# Altium footprint library Demo_Board_library_PCB.PcbLib: 42 footprints (part 2 of 3)
Each footprint in its own frame and in the unit in brackets; x right, y up, seen from the top. Pads: shape width x height; smd on the part's side, far side on the other; paste and mask are expansions set on the pad; w line width, h text height; cw(c..) or ccw(c..) is an arc to the next point about the centre after c.
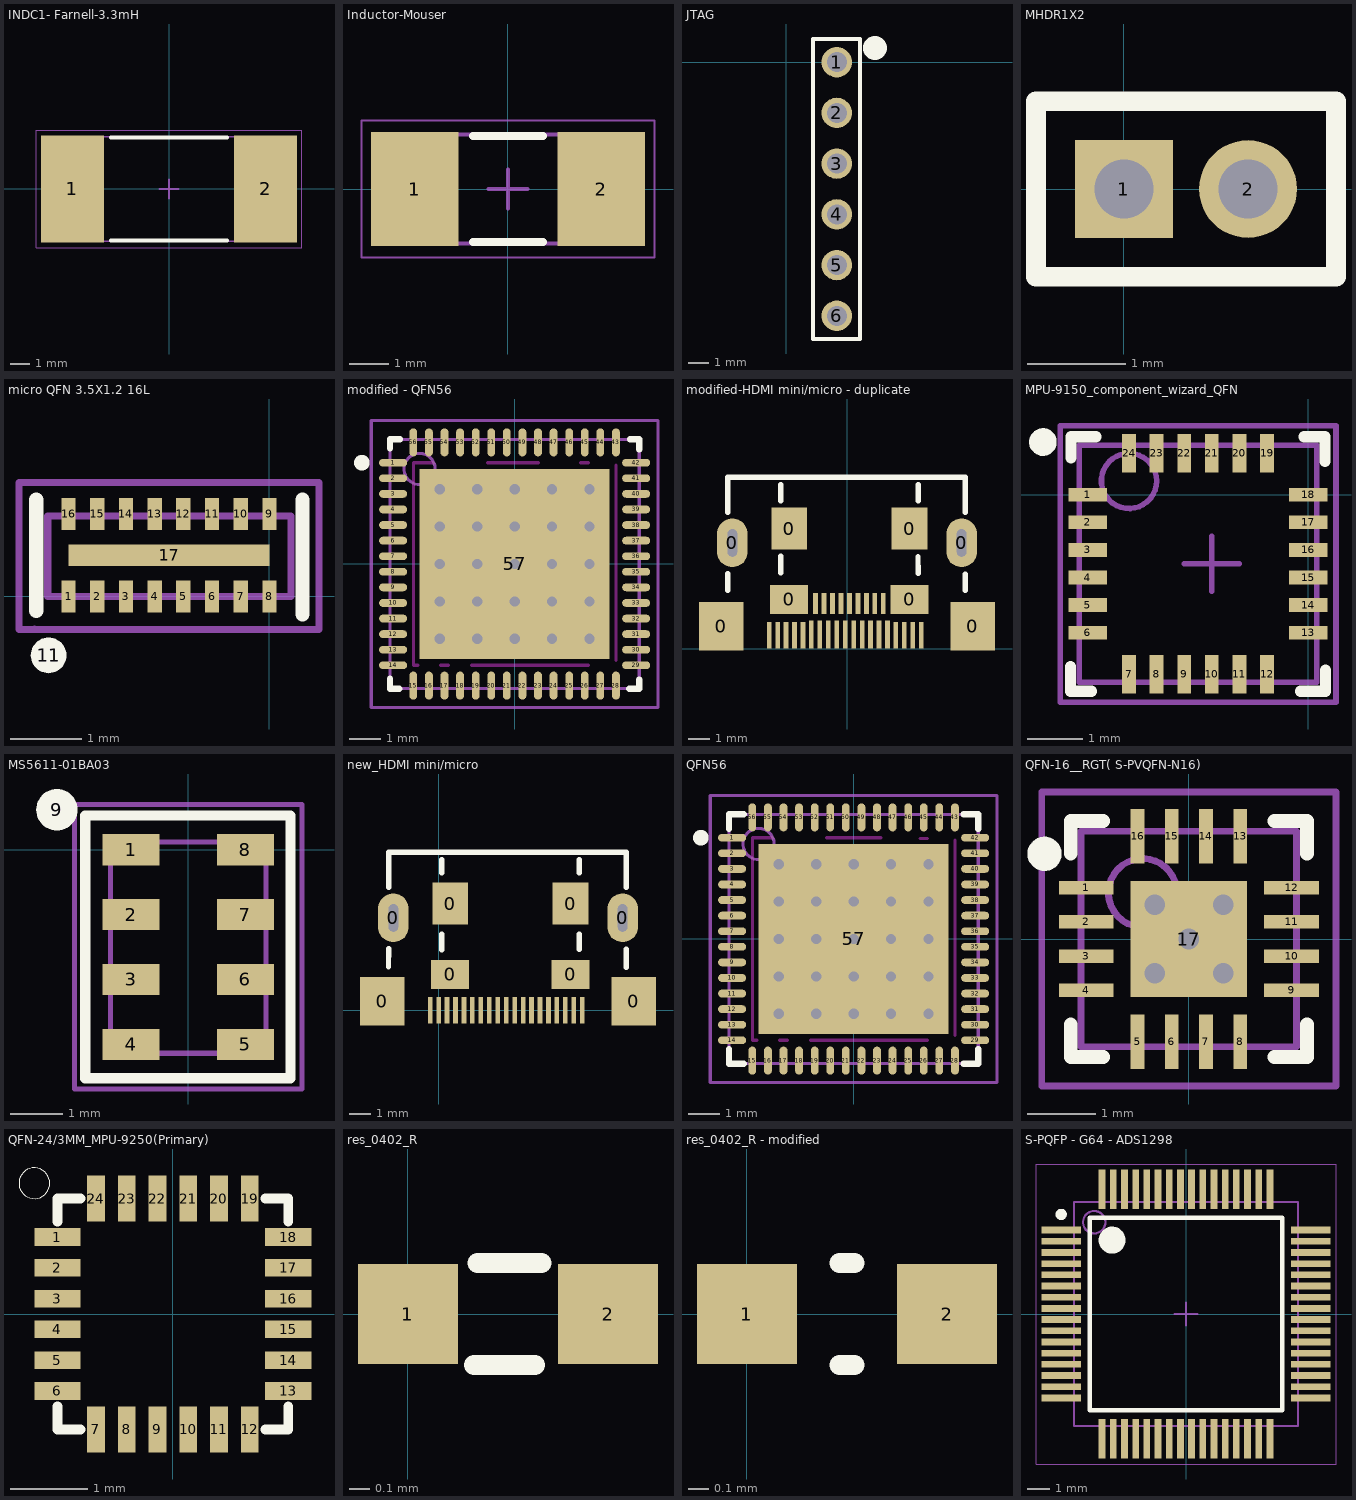
[diagram p1: the footprints below, top view; thin cyan lines are the x and y axes]

## INDC1- Farnell-3.3mH [mm] "Chip Inductor, 2-Leads, Body 12,50x5,50mm, IPC Medium Density"
height 0.6
pads (2):
  rect 3.32x5.62 smd: 1(-5.09,0) 2(5.09,0)
Top Overlay:
  lines w0.2: -3.05,-2.71 3.05,-2.71 ; -3.05,2.71 3.05,2.71
Mechanical 13:
  lines w0.1: -6.25,-2.75 6.25,-2.75 6.25,2.75 -6.25,2.75 -6.25,-2.75
Mechanical 15:
  lines w0.05: -7,-3.1 7,-3.1 7,3.1 -7,3.1 -7,-3.1
  lines w0.1: -0.5,0 0.5,0 ; 0,-0.5 0,0.5
3D body: height 0.6, standoff 0, extent 3.25,-2.75 6.25,2.75
3D body: height 0.6, standoff 0, extent -6.25,-2.75 -3.25,2.75
3D body: height 0.6, standoff 0, extent -3.25,-2.75 3.25,2.75

## Inductor-Mouser [mm]
height 0.6
pads (2):
  rect 2.24x2.91 smd: 1(-2.385,0) 2(2.385,0)
Top Overlay:
  lines w0.2: -0.9,-1.355 0.9,-1.355 ; -0.9,1.355 0.9,1.355
Mechanical 13:
  lines w0.1: -2.995,-1.395 -2.995,1.395 2.995,1.395 2.995,-1.395 -2.995,-1.395
Mechanical 15:
  lines w0.05: -3.75,-1.75 -3.75,1.75 3.75,1.75 3.75,-1.75 -3.75,-1.75
  lines w0.1: -0.5,0 0.5,0 ; 0,-0.5 0,0.5
3D body: height 0.6, standoff 0, extent -1.085,-1.395 1.085,1.395
3D body: height 0.6, standoff 0, extent -2.995,-1.395 -1.085,1.395
3D body: height 0.6, standoff 0, extent 1.085,-1.395 2.995,1.395

## JTAG [mil]
pads (6):
  round 60 hole 39.37: 1(100,0) 2(100,-100) 3(100,-200) 4(100,-300) 5(100,-400) 6(100,-500)
Top Overlay:
  circle w23.62: c175.2,27.95 r11.81
  lines w7.87: 53.15,-545.67 53.15,45.67 146.06,45.67 146.06,-545.67 53.15,-545.67

## MHDR1X2 [mm] "Connector; Header; 2 Position"
pads (2):
  rect 1x1 hole 0.6: 1(0,0)
  round 1 hole 0.6: 2(1.27,0)
Top Overlay:
  lines w0.2: -0.9,-0.9 -0.9,0.9 2.17,0.9 2.17,-0.9 -0.9,-0.9

## micro QFN 3.5X1.2 16L [mm] "footprint EMIF06-MSD02N16"
height 0.45
pads (18):
  rect 0.2x0.45 smd mask+0.05: 1(-2.8,0) 2(-2.4,0) 3(-2,0) 4(-1.6,0) 5(-1.2,0) 6(-0.8,0) 7(-0.4,0) 8(0,0) 9(0,1.15) 10(-0.4,1.15) 11(-0.8,1.15) 12(-1.2,1.15) 13(-1.6,1.15) 14(-2,1.15) 15(-2.4,1.15) 16(-2.8,1.15)
  round 0.5 on Top Overlay mask+0.08: 11(-3.077,-0.82)
  rect 2.8x0.3 smd mask+0.05: 17(-1.4,0.575)
Top Overlay:
  lines w0.2: -3.25,-0.2 -3.25,1.35 ; 0.46,-0.25 0.46,1.35
Mechanical 13:
  lines w0.1: -3.09,0 -3.09,1.12 0.3,1.12 0.3,0 0,0 -3.09,0
Mechanical 15:
  lines w0.1: -3.275,-0.455 -3.275,-0.46 ; -3.275,-0.46 -3.49,-0.46 -3.49,1.59 -3.47,1.59 0.69,1.59 0.69,-0.46 -3.275,-0.46
3D body: height 0.5, standoff 0.45, extent -3.115,-0.025 0.325,1.145

## modified - QFN56 [mm] "QFN, 56-Leads, Body 8.0x8.0mm (max), Pitch 0.50mm, IPC Medium Density"
height 0.8
pads (57):
  oval 0.9x0.25 smd mask+0.049: 1(-3.9,3.25) 14(-3.9,-3.25) 29(3.9,-3.25) 42(3.9,3.25)
  oval 0.9x0.25 smd: 2(-3.9,2.75) 3(-3.9,2.25) 4(-3.9,1.75) 5(-3.9,1.25) 6(-3.9,0.75) 7(-3.9,0.25) 8(-3.9,-0.25) 9(-3.9,-0.75) 10(-3.9,-1.25) 11(-3.9,-1.75) 12(-3.9,-2.25) 13(-3.9,-2.75) 30(3.9,-2.75) 31(3.9,-2.25) 32(3.9,-1.75) 33(3.9,-1.25) 34(3.9,-0.75) 35(3.9,-0.25) 36(3.9,0.25) 37(3.9,0.75) 38(3.9,1.25) 39(3.9,1.75) 40(3.9,2.25) 41(3.9,2.75)
  oval 0.25x0.9 smd mask+0.049: 15(-3.25,-3.9) 28(3.25,-3.9) 43(3.25,3.9) 56(-3.25,3.9)
  oval 0.25x0.9 smd: 16(-2.75,-3.9) 17(-2.25,-3.9) 18(-1.75,-3.9) 19(-1.25,-3.9) 20(-0.75,-3.9) 21(-0.25,-3.9) 22(0.25,-3.9) 23(0.75,-3.9) 24(1.25,-3.9) 25(1.75,-3.9) 26(2.25,-3.9) 27(2.75,-3.9) 44(2.75,3.9) 45(2.25,3.9) 46(1.75,3.9) 47(1.25,3.9) 48(0.75,3.9) 49(0.25,3.9) 50(-0.25,3.9) 51(-0.75,3.9) 52(-1.25,3.9) 53(-1.75,3.9) 54(-2.25,3.9) 55(-2.75,3.9)
  rect 6.1x6.1 smd: 57(0,0)
via -2.4,2.4 diameter 0.66 hole 0.33
via -1.2,2.4 diameter 0.66 hole 0.33
via 0,2.4 diameter 0.66 hole 0.33
via 1.2,2.4 diameter 0.66 hole 0.33
via 2.4,2.4 diameter 0.66 hole 0.33
via -2.4,1.2 diameter 0.66 hole 0.33
via -1.2,1.2 diameter 0.66 hole 0.33
via 0,1.2 diameter 0.66 hole 0.33
via 1.2,1.2 diameter 0.66 hole 0.33
via 2.4,1.2 diameter 0.66 hole 0.33
via -2.4,0 diameter 0.66 hole 0.33
via -1.2,0 diameter 0.66 hole 0.33
via 0,0 diameter 0.66 hole 0.33
via 1.2,0 diameter 0.66 hole 0.33
via 2.4,0 diameter 0.66 hole 0.33
via -2.4,-1.2 diameter 0.66 hole 0.33
via -1.2,-1.2 diameter 0.66 hole 0.33
via 0,-1.2 diameter 0.66 hole 0.33
via 1.2,-1.2 diameter 0.66 hole 0.33
via 2.4,-1.2 diameter 0.66 hole 0.33
via -2.4,-2.4 diameter 0.66 hole 0.33
via -1.2,-2.4 diameter 0.66 hole 0.33
via 0,-2.4 diameter 0.66 hole 0.33
via 1.2,-2.4 diameter 0.66 hole 0.33
via 2.4,-2.4 diameter 0.66 hole 0.33
Top Layer keep-out:
  lines w0.1: -3.1,-3.25 -3.25,-3.25 -3.25,3.25 -2.625,3.25 ; -2.375,-3.25 -2.125,-3.25 ; -1.375,-3.25 2.375,-3.25 ; -0.875,3.25 0.768,3.25 ; 2.12,3.25 2.37,3.25 ; 3.25,-3.1 3.25,3.175
Top Overlay:
  circle w0.25: c-4.9,3.25 r0.125
  lines w0.2: -4,-3.676 -4,-4 -3.703,-4 ; -4,3.703 -4,4 -3.676,4 ; 3.676,-4 4,-4 4,-3.703 ; 3.703,4 4,4 4,3.676
Mechanical 13:
  circle w0.1: c-3.05,3.05 r0.5
  lines w0.1: -4,-4 -4,4 4,4 4,-4 -4,-4
Mechanical 15:
  lines w0.1: -0.5,0 0.5,0 ; 0,-0.5 0,0.5 ; -4.6,-4.6 -4.6,4.6 4.6,4.6 4.6,-4.6 -4.6,-4.6
3D body: height 0.8, standoff 0.01, extent -4,-4 4,4

## modified-HDMI mini/micro - duplicate [mm]
height 3.45
pads (46):
  rect 2.1x2.3 smd: 0(-5.95,1.05) 0(5.95,1.05)
  rrect100% 1.45x2.3 hole 0.45 slot 1.3 at 90 deg: 0(-5.425,5) 0(5.425,5)
  rect 1.8x1.38 smd: 0(-2.735,2.32) 0(2.965,2.32)
  rect 1.7x2 smd: 0(-2.735,5.68) 0(2.965,5.68)
  rect 0.22x1.25 smd: a(-3.685,0.625) b(-3.285,0.625) c(-2.885,0.625) d(-2.485,0.625) e(-2.085,0.625) f(-1.685,0.625) g(-1.285,0.625) h(-0.885,0.625) i(-0.485,0.625) j(-0.085,0.625) k(0.315,0.625) l(0.715,0.625) m(1.115,0.625) n(1.515,0.625) o(1.915,0.625) p(2.315,0.625) q(2.715,0.625) r(3.115,0.625) s(3.515,0.625)
  rect 0.23x1 smd: a(-1.485,2.13) b(-1.085,2.13) c(-0.685,2.13) d(-0.285,2.13) e(0.115,2.13) p(0.515,2.13) q(0.915,2.13) r(1.315,2.13) s(1.715,2.13)
  rect 0.22x0.85 smd: f(-1.685,0.905) g(-1.285,0.905) h(-0.885,0.905) i(-0.485,0.905) j(-0.085,0.905) k(0.315,0.905) l(0.715,0.905) m(1.115,0.905) n(1.515,0.905) o(1.915,0.905)
Top Overlay:
  lines w0.254: -5.65,3.55 -5.648,2.766 ; -5.65,6.45 -5.65,8.1 -2.838,8.1 2.788,8.1 5.6,8.1 5.6,6.45 ; -3.14,4.372 -3.138,3.588 ; -3.135,6.98 -3.135,7.755 ; 3.362,4.347 3.364,3.563 ; 3.365,6.98 3.365,7.755 ; 5.599,3.528 5.601,2.744
Top Solder:
  rectangle: -3.737,2.673 -3.727,2.736
  rectangle: -3.737,-0.097 3.769,2.757
3D body: height 3.5, standoff 0, extent -5.625,0.5 5.625,8.1

## MPU-9150_component_wizard_QFN [mm] "footprint imu"
height 1.1
pads (24):
  rect 0.7x0.25 smd mask+0.05: 1(-4,0) 2(-4,-0.5) 3(-4,-1) 4(-4,-1.5) 5(-4,-2) 6(-4,-2.5) 13(0,-2.5) 14(0,-2) 15(0,-1.5) 16(0,-1) 17(0,-0.5) 18(0,0)
  rect 0.25x0.7 smd mask+0.05: 7(-3.25,-3.25) 8(-2.75,-3.25) 9(-2.25,-3.25) 10(-1.75,-3.25) 11(-1.25,-3.25) 12(-0.75,-3.25) 19(-0.75,0.75) 20(-1.25,0.75) 21(-1.75,0.75) 22(-2.25,0.75) 23(-2.75,0.75) 24(-3.25,0.75)
Top Overlay:
  circle w0.25: c-4.81,0.955 r0.125
  lines w0.2: -4.31,-3.11 -4.31,-3.56 -3.93,-3.56 ; -4.3,0.67 -4.3,1.05 -3.85,1.05 ; -0.14,-3.56 0.31,-3.56 0.31,-3.18 ; -0.08,1.05 0.3,1.05 0.3,0.6
Mechanical 13:
  circle w0.1: c-3.25,0.25 r0.5
  lines w0.1: -4.15,-3.4 0.15,-3.4 0.15,0.9 -4.15,0.9 -4.15,-3.4
Mechanical 15:
  lines w0.1: -2.25,-1.25 -1.25,-1.25 ; -1.75,-1.75 -1.75,-0.75 ; -4.5,-3.76 0.5,-3.76 0.5,1.25 -4.5,1.25 -4.5,-3.76
3D body: height 1.1, standoff 0.11, extent -4.2,-3.45 0.2,0.95

## MS5611-01BA03 [mm] "footprint sensore pressione"
pads (9):
  rect 1.1x0.6 smd mask+0.2: 1(-1.1,0) 2(-1.1,-1.25) 3(-1.1,-2.5) 4(-1.1,-3.75) 5(1.1,-3.75) 6(1.1,-2.5) 7(1.1,-1.25) 8(1.1,0)
  round 0.8 on Top Overlay mask+0.2: 9(-2.53,0.77)
Top Overlay:
  lines w0.2: -1.98,-4.4 1.97,-4.4 1.97,-4.38 1.97,0.66 -1.98,0.66 -1.98,-0.94 -1.98,-4.4
Mechanical 6:
  lines w0.1: 1.5,0.14 1.5,0.15
Mechanical 13:
  lines w0.1: 1.5,0.14 1.5,-3.92 -1.5,-3.92 -1.5,0.15 0,0.15 1.5,0.15
Mechanical 15:
  lines w0.1: -2.19,-4.61 -2.19,0.87 2.19,0.87 2.19,-4.61 -2.19,-4.61
3D body: height 1, standoff 0, extent -1.55,-3.97 1.55,0.2

## new_HDMI mini/micro [mm]
height 3.45
pads (27):
  rect 2.1x2.3 smd: 0(-2.67,0.433) 0(9.23,0.433)
  rrect100% 1.45x2.3 hole 0.45 slot 1.3 at 90 deg: 0(-2.145,4.383) 0(8.705,4.383)
  rect 1.8x1.38 smd: 0(0.545,1.703) 0(6.245,1.703)
  rect 1.7x2 smd: 0(0.545,5.063) 0(6.245,5.063)
  rect 0.22x1.25 smd mask+0.035: a(-0.404,0.009) b(-0.005,0.008) c(0.395,0.008) d(0.795,0.008) e(1.195,0.008) f(1.595,0.008) g(1.995,0.008) h(2.395,0.008) i(2.795,0.008) j(3.195,0.008) k(3.595,0.008) l(3.995,0.008) m(4.395,0.008) n(4.795,0.008) o(5.195,0.008) p(5.595,0.008) q(5.995,0.008) r(6.395,0.008) s(6.795,0.008)
Top Overlay:
  lines w0.254: -2.379,2.074 -2.37,2.933 ; -2.37,5.833 -2.37,7.482 0.443,7.482 6.068,7.482 8.88,7.482 8.88,5.833 ; 0.142,2.877 0.142,3.601 ; 0.144,6.523 0.145,7.138 ; 6.645,7.138 6.649,6.512 ; 6.647,3.601 6.651,2.901 ; 8.88,2.907 8.883,2.041
3D body: height 3.5, standoff 0, extent -2.345,-0.118 8.905,7.482

## QFN56 [mm] "QFN, 56-Leads, Body 8.0x8.0mm (max), Pitch 0.50mm, IPC Medium Density"
height 0.8
pads (57):
  oval 0.9x0.25 smd: 1(-3.9,3.25) 2(-3.9,2.75) 3(-3.9,2.25) 4(-3.9,1.75) 5(-3.9,1.25) 6(-3.9,0.75) 7(-3.9,0.25) 8(-3.9,-0.25) 9(-3.9,-0.75) 10(-3.9,-1.25) 11(-3.9,-1.75) 12(-3.9,-2.25) 13(-3.9,-2.75) 14(-3.9,-3.25) 29(3.9,-3.25) 30(3.9,-2.75) 31(3.9,-2.25) 32(3.9,-1.75) 33(3.9,-1.25) 34(3.9,-0.75) 35(3.9,-0.25) 36(3.9,0.25) 37(3.9,0.75) 38(3.9,1.25) 39(3.9,1.75) 40(3.9,2.25) 41(3.9,2.75) 42(3.9,3.25)
  oval 0.25x0.9 smd: 15(-3.25,-3.9) 16(-2.75,-3.9) 17(-2.25,-3.9) 18(-1.75,-3.9) 19(-1.25,-3.9) 20(-0.75,-3.9) 21(-0.25,-3.9) 22(0.25,-3.9) 23(0.75,-3.9) 24(1.25,-3.9) 25(1.75,-3.9) 26(2.25,-3.9) 27(2.75,-3.9) 28(3.25,-3.9) 43(3.25,3.9) 44(2.75,3.9) 45(2.25,3.9) 46(1.75,3.9) 47(1.25,3.9) 48(0.75,3.9) 49(0.25,3.9) 50(-0.25,3.9) 51(-0.75,3.9) 52(-1.25,3.9) 53(-1.75,3.9) 54(-2.25,3.9) 55(-2.75,3.9) 56(-3.25,3.9)
  rect 6.1x6.1 smd: 57(0,0)
via 2.4,-2.4 diameter 0.66 hole 0.33
via 1.2,-2.4 diameter 0.66 hole 0.33
via 0,-2.4 diameter 0.66 hole 0.33
via -1.2,-2.4 diameter 0.66 hole 0.33
via -2.4,-2.4 diameter 0.66 hole 0.33
via 2.4,-1.2 diameter 0.66 hole 0.33
via 1.2,-1.2 diameter 0.66 hole 0.33
via 0,-1.2 diameter 0.66 hole 0.33
via -1.2,-1.2 diameter 0.66 hole 0.33
via -2.4,-1.2 diameter 0.66 hole 0.33
via 2.4,0 diameter 0.66 hole 0.33
via 1.2,0 diameter 0.66 hole 0.33
via 0,0 diameter 0.66 hole 0.33
via -1.2,0 diameter 0.66 hole 0.33
via -2.4,0 diameter 0.66 hole 0.33
via 2.4,1.2 diameter 0.66 hole 0.33
via 1.2,1.2 diameter 0.66 hole 0.33
via 0,1.2 diameter 0.66 hole 0.33
via -1.2,1.2 diameter 0.66 hole 0.33
via -2.4,1.2 diameter 0.66 hole 0.33
via 2.4,2.4 diameter 0.66 hole 0.33
via 1.2,2.4 diameter 0.66 hole 0.33
via 0,2.4 diameter 0.66 hole 0.33
via -1.2,2.4 diameter 0.66 hole 0.33
via -2.4,2.4 diameter 0.66 hole 0.33
Top Layer keep-out:
  lines w0.1: -3.1,-3.25 -3.25,-3.25 -3.25,3.25 -2.625,3.25 ; -2.375,-3.25 -2.125,-3.25 ; -1.375,-3.25 2.375,-3.25 ; -0.875,3.25 0.875,3.25 ; 2.125,3.225 2.375,3.225 ; 3.25,-3.1 3.25,3.175
Top Overlay:
  circle w0.25: c-4.9,3.25 r0.125
  lines w0.2: -4,-3.525 -4,-4 -3.525,-4 ; -4,3.525 -4,4 -3.525,4 ; 3.525,-4 4,-4 4,-3.525 ; 3.525,4 4,4 4,3.525
Mechanical 13:
  circle w0.1: c-3.05,3.05 r0.5
  lines w0.1: -4,-4 4,-4 4,4 -4,4 -4,-4
Mechanical 15:
  lines w0.1: -0.5,0 0.5,0 ; 0,-0.5 0,0.5 ; -4.6,-4.6 4.6,-4.6 4.6,4.6 -4.6,4.6 -4.6,-4.6
3D body: height 0.8, standoff 0.01, extent -4,-4 4,4

## QFN-16__RGT( S-PVQFN-N16) [mm] "Footoprint BQ24073"
height 1
pads (17):
  rect 0.8x0.2 smd: 1(-1.5,0.75) 2(-1.5,0.25) 3(-1.5,-0.25) 4(-1.5,-0.75) 9(1.5,-0.75) 10(1.5,-0.25) 11(1.5,0.25) 12(1.5,0.75)
  rect 0.2x0.8 smd: 5(-0.75,-1.5) 6(-0.25,-1.5) 7(0.25,-1.5) 8(0.75,-1.5) 13(0.75,1.5) 14(0.25,1.5) 15(-0.25,1.5) 16(-0.75,1.5)
  rect 1.7x1.7 smd: 17(0,0)
via -0.5,0.5 diameter 0.6 hole 0.3
via -0.5,-0.5 diameter 0.6 hole 0.3
via 0.5,-0.5 diameter 0.6 hole 0.3
via 0.5,0.5 diameter 0.6 hole 0.3
via 0,0 diameter 0.6 hole 0.3
Top Overlay:
  circle w0.25: c-2.108,1.245 r0.125
  lines w0.2: -1.725,-1.25 -1.725,-1.725 -1.25,-1.725 ; -1.725,1.25 -1.725,1.725 -1.25,1.725 ; 1.25,-1.725 1.725,-1.725 1.725,-1.25 ; 1.25,1.725 1.725,1.725 1.725,1.25
Mechanical 13:
  circle w0.1: c-0.675,0.675 r0.5
  lines w0.1: -1.575,-1.575 -1.575,1.575 1.575,1.575 1.575,-1.575 -1.575,-1.575
Mechanical 15:
  lines w0.1: -0.5,0 0.5,0 ; 0,-0.5 0,0.5 ; -2.15,-2.15 -2.15,2.15 2.15,2.15 2.15,-2.15 -2.15,-2.15
3D body: height 1, standoff 0.05, extent -1.575,-1.575 1.575,1.575

## QFN-24/3MM_MPU-9250(Primary) [mm]
pads (24):
  rect 0.6x0.23 smd paste-25.4 mask-25.4: 1(-1.5,1) 2(-1.5,0.6) 3(-1.5,0.2) 4(-1.5,-0.2) 5(-1.5,-0.6) 6(-1.5,-1) 13(1.5,-1) 14(1.5,-0.6) 15(1.5,-0.2) 16(1.5,0.2) 17(1.5,0.6) 18(1.5,1)
  rect 0.23x0.6 smd paste-25.4 mask-25.4: 7(-1,-1.5) 8(-0.6,-1.5) 9(-0.2,-1.5) 10(0.2,-1.5) 11(0.6,-1.5) 12(1,-1.5) 19(1,1.5) 20(0.6,1.5) 21(0.2,1.5) 22(-0.2,1.5) 23(-0.6,1.5) 24(-1,1.5)
Top Overlay:
  circle w0: c-1.8,1.7 r0.2
  lines w0.127: -1.5,-1.2 -1.5,-1.5 -1.2,-1.5 ; -1.5,1.2 -1.5,1.5 -1.2,1.5 ; 1.2,-1.5 1.5,-1.5 1.5,-1.2 ; 1.2,1.5 1.5,1.5 1.5,1.2
Top Paste:
  region: -1.115,1.8 -1.115,1.2 -0.885,1.2 -0.885,1.8
  region: -0.715,1.8 -0.715,1.2 -0.485,1.2 -0.485,1.8
  region: -0.315,1.8 -0.315,1.2 -0.085,1.2 -0.085,1.8
  region: 0.085,1.8 0.085,1.2 0.315,1.2 0.315,1.8
  region: 0.485,1.8 0.485,1.2 0.715,1.2 0.715,1.8
  region: 0.885,1.8 0.885,1.2 1.115,1.2 1.115,1.8
  region: 1.8,1.115 1.2,1.115 1.2,0.885 1.8,0.885
  region: 1.8,0.715 1.2,0.715 1.2,0.485 1.8,0.485
  region: 1.8,0.315 1.2,0.315 1.2,0.085 1.8,0.085
  region: 1.8,-0.085 1.2,-0.085 1.2,-0.315 1.8,-0.315
  region: 1.8,-0.485 1.2,-0.485 1.2,-0.715 1.8,-0.715
  region: 1.8,-0.885 1.2,-0.885 1.2,-1.115 1.8,-1.115
  region: 1.115,-1.8 1.115,-1.2 0.885,-1.2 0.885,-1.8
  region: 0.715,-1.8 0.715,-1.2 0.485,-1.2 0.485,-1.8
  region: 0.315,-1.8 0.315,-1.2 0.085,-1.2 0.085,-1.8
  region: -0.085,-1.8 -0.085,-1.2 -0.315,-1.2 -0.315,-1.8
  region: -0.485,-1.8 -0.485,-1.2 -0.715,-1.2 -0.715,-1.8
  region: -0.885,-1.8 -0.885,-1.2 -1.115,-1.2 -1.115,-1.8
  region: -1.8,-1.115 -1.2,-1.115 -1.2,-0.885 -1.8,-0.885
  region: -1.8,-0.715 -1.2,-0.715 -1.2,-0.485 -1.8,-0.485
  region: -1.8,-0.315 -1.2,-0.315 -1.2,-0.085 -1.8,-0.085
  region: -1.8,0.085 -1.2,0.085 -1.2,0.315 -1.8,0.315
  region: -1.8,0.485 -1.2,0.485 -1.2,0.715 -1.8,0.715
  region: -1.8,0.885 -1.2,0.885 -1.2,1.115 -1.8,1.115
Top Solder:
  region: -1.215,1.9 -1.215,1.1 -0.785,1.1 -0.785,1.9
  region: -0.815,1.9 -0.815,1.1 -0.385,1.1 -0.385,1.9
  region: -0.415,1.9 -0.415,1.1 0.015,1.1 0.015,1.9
  region: -0.015,1.9 -0.015,1.1 0.415,1.1 0.415,1.9
  region: 0.385,1.9 0.385,1.1 0.815,1.1 0.815,1.9
  region: 0.785,1.9 0.785,1.1 1.215,1.1 1.215,1.9
  region: 1.9,1.215 1.1,1.215 1.1,0.785 1.9,0.785
  region: 1.9,0.815 1.1,0.815 1.1,0.385 1.9,0.385
  region: 1.9,0.415 1.1,0.415 1.1,-0.015 1.9,-0.015
  region: 1.9,0.015 1.1,0.015 1.1,-0.415 1.9,-0.415
  region: 1.9,-0.385 1.1,-0.385 1.1,-0.815 1.9,-0.815
  region: 1.9,-0.785 1.1,-0.785 1.1,-1.215 1.9,-1.215
  region: 1.215,-1.9 1.215,-1.1 0.785,-1.1 0.785,-1.9
  region: 0.815,-1.9 0.815,-1.1 0.385,-1.1 0.385,-1.9
  region: 0.415,-1.9 0.415,-1.1 -0.015,-1.1 -0.015,-1.9
  region: 0.015,-1.9 0.015,-1.1 -0.415,-1.1 -0.415,-1.9
  region: -0.385,-1.9 -0.385,-1.1 -0.815,-1.1 -0.815,-1.9
  region: -0.785,-1.9 -0.785,-1.1 -1.215,-1.1 -1.215,-1.9
  region: -1.9,-1.215 -1.1,-1.215 -1.1,-0.785 -1.9,-0.785
  region: -1.9,-0.815 -1.1,-0.815 -1.1,-0.385 -1.9,-0.385
  region: -1.9,-0.415 -1.1,-0.415 -1.1,0.015 -1.9,0.015
  region: -1.9,-0.015 -1.1,-0.015 -1.1,0.415 -1.9,0.415
  region: -1.9,0.385 -1.1,0.385 -1.1,0.815 -1.9,0.815
  region: -1.9,0.785 -1.1,0.785 -1.1,1.215 -1.9,1.215

## res_0402_R [mm] "0402_R"
height 0.35
pads (2):
  rect 0.5x0.5 smd paste-0.05: 1(0,0) 2(1,0)
Top Overlay:
  lines w0.1: 0.329,-0.254 0.635,-0.254 ; 0.348,0.254 0.666,0.254
3D body: height 0.3, standoff 0, extent -0.127,-0.254 0.051,0.254
3D body: height 0.3, standoff 0, extent 0.051,-0.254 0.965,0.254
3D body: height 0.3, standoff 0, extent 0.965,-0.254 1.143,0.254

## res_0402_R - modified [mm] "0402_R"
height 0.35
pads (2):
  rect 0.5x0.5 smd paste-0.05: 1(0,0) 2(1,0)
Top Overlay:
  lines w0.1: 0.462,-0.254 0.537,-0.254 ; 0.462,0.254 0.537,0.254
3D body: height 0.3, standoff 0, extent 0.965,-0.254 1.143,0.254
3D body: height 0.3, standoff 0, extent 0.051,-0.254 0.965,0.254
3D body: height 0.3, standoff 0, extent -0.127,-0.254 0.051,0.254

## S-PQFP - G64 - ADS1298 [mm] "TSQFP, 64-Leads, Body 10,00x10,00mm, Pitch 0,50mm, IPC Medium Density"
height 1.2
pads (64):
  rect 1.75x0.3 smd: 1(-5.575,3.75) 2(-5.575,3.25) 3(-5.575,2.75) 4(-5.575,2.25) 5(-5.575,1.75) 6(-5.575,1.25) 7(-5.575,0.75) 8(-5.575,0.25) 9(-5.575,-0.25) 10(-5.575,-0.75) 11(-5.575,-1.25) 12(-5.575,-1.75) 13(-5.575,-2.25) 14(-5.575,-2.75) 15(-5.575,-3.25) 16(-5.575,-3.75) 33(5.575,-3.75) 34(5.575,-3.25) 35(5.575,-2.75) 36(5.575,-2.25) 37(5.575,-1.75) 38(5.575,-1.25) 39(5.575,-0.75) 40(5.575,-0.25) 41(5.575,0.25) 42(5.575,0.75) 43(5.575,1.25) 44(5.575,1.75) 45(5.575,2.25) 46(5.575,2.75) 47(5.575,3.25) 48(5.575,3.75)
  rect 0.3x1.75 smd: 17(-3.75,-5.575) 18(-3.25,-5.575) 19(-2.75,-5.575) 20(-2.25,-5.575) 21(-1.75,-5.575) 22(-1.25,-5.575) 23(-0.75,-5.575) 24(-0.25,-5.575) 25(0.25,-5.575) 26(0.75,-5.575) 27(1.25,-5.575) 28(1.75,-5.575) 29(2.25,-5.575) 30(2.75,-5.575) 31(3.25,-5.575) 32(3.75,-5.575) 49(3.75,5.575) 50(3.25,5.575) 51(2.75,5.575) 52(2.25,5.575) 53(1.75,5.575) 54(1.25,5.575) 55(0.75,5.575) 56(0.25,5.575) 57(-0.25,5.575) 58(-0.75,5.575) 59(-1.25,5.575) 60(-1.75,5.575) 61(-2.25,5.575) 62(-2.75,5.575) 63(-3.25,5.575) 64(-3.75,5.575)
Top Overlay:
  circle w0.25: c-5.575,4.45 r0.125
  circle w0.6: c-3.3,3.3 r0.3
  lines w0.2: -4.3,-4.3 -4.3,4.3 4.3,4.3 4.3,-4.3 -4.3,-4.3
Mechanical 13:
  circle w0.1: c-4.1,4.1 r0.5
  lines w0.1: -5,-5 -5,5 5,5 5,-5 -5,-5
Mechanical 15:
  lines w0.05: -6.7,-6.7 -6.7,6.7 6.7,6.7 6.7,-6.7 -6.7,-6.7
  lines w0.1: -0.5,0 0.5,0 ; 0,-0.5 0,0.5
3D body: height 1.2, standoff 0.25, extent -5,-5 5,5